# EAGLE library part ACS712 (library group10)
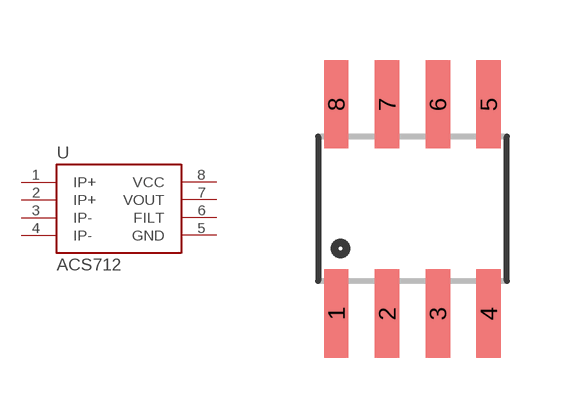
[diagram p0: symbol with the pads of SO08; footprint SO08]

Designator prefix -

## ACS712  [SO08]
1  IP+
2  IP+
3  IP-
4  IP-
5  GND
6  FILT
7  VOUT
8  VCC

## Footprint SO08 (pad centres in mm)
Small Outline Package Fits JEDEC packages (narrow SOIC-8)
smd 0.61 x 2.21: 1 -1.905,-2.616; 2 -0.635,-2.616; 3 0.635,-2.616; 4 1.905,-2.616; 5 1.905,2.616; 6 0.635,2.616; 7 -0.635,2.616; 8 -1.905,2.616